# Altium footprint library TQFP-44.PcbLib: 1 footprints
Each footprint in its own frame and in the unit in brackets; x right, y up, seen from the top. Pads: shape width x height; smd on the part's side, far side on the other; paste and mask are expansions set on the pad; w line width, h text height; cw(c..) or ccw(c..) is an arc to the next point about the centre after c.
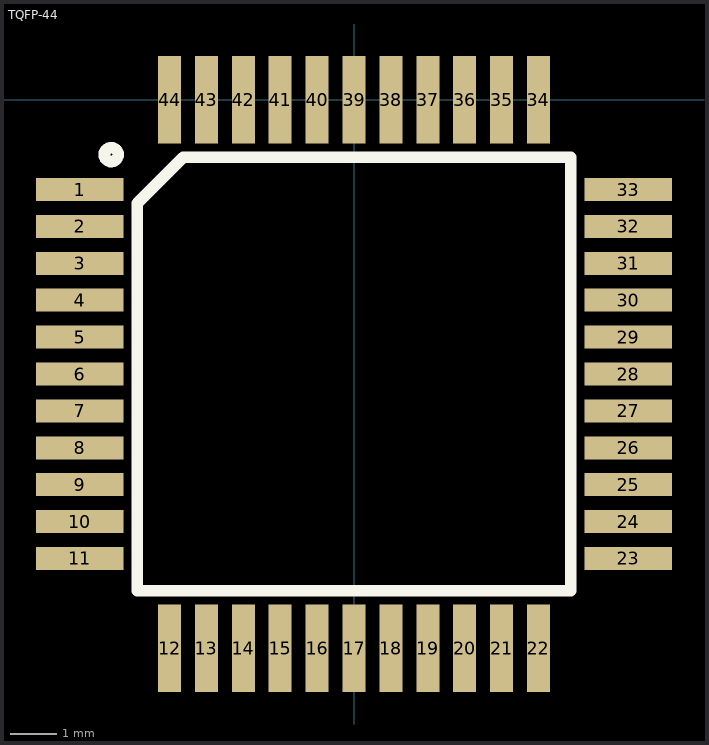
[diagram p0: the footprint, top view; thin cyan lines are the x and y axes]

## TQFP-44 [mm]
pads (44):
  rect 1.9x0.5 smd: 1(-5.95,-1.95) 2(-5.95,-2.75) 3(-5.95,-3.55) 4(-5.95,-4.35) 5(-5.95,-5.15) 6(-5.95,-5.95) 7(-5.95,-6.75) 8(-5.95,-7.55) 9(-5.95,-8.35) 10(-5.95,-9.15) 11(-5.95,-9.95) 23(5.95,-9.95) 24(5.95,-9.15) 25(5.95,-8.35) 26(5.95,-7.55) 27(5.95,-6.75) 28(5.95,-5.95) 29(5.95,-5.15) 30(5.95,-4.35) 31(5.95,-3.55) 32(5.95,-2.75) 33(5.95,-1.95)
  rect 0.5x1.9 smd: 12(-4,-11.9) 13(-3.2,-11.9) 14(-2.4,-11.9) 15(-1.6,-11.9) 16(-0.8,-11.9) 17(0,-11.9) 18(0.8,-11.9) 19(1.6,-11.9) 20(2.4,-11.9) 21(3.2,-11.9) 22(4,-11.9) 34(4,0) 35(3.2,0) 36(2.4,0) 37(1.6,0) 38(0.8,0) 39(0,0) 40(-0.8,0) 41(-1.6,0) 42(-2.4,0) 43(-3.2,0) 44(-4,0)
TopOverlay:
  circle w0.25: c-5.265,-1.193 r0.15
  lines w0.25: -4.7,-10.65 4.7,-10.65 4.7,-1.25
  lines w0.254: -4.7,-10.65 -4.7,-3.525 -4.7,-2.249 -3.701,-1.25 -2.978,-1.25 4.7,-1.25
3D body: height 1.1, standoff 0, extent -5.994,-11.956 6.006,0.044